# Altium schematic symbol library ADV7180.SchLib: 1 symbol
Pins are listed as number, name and electrical type; pins without a type are passive.

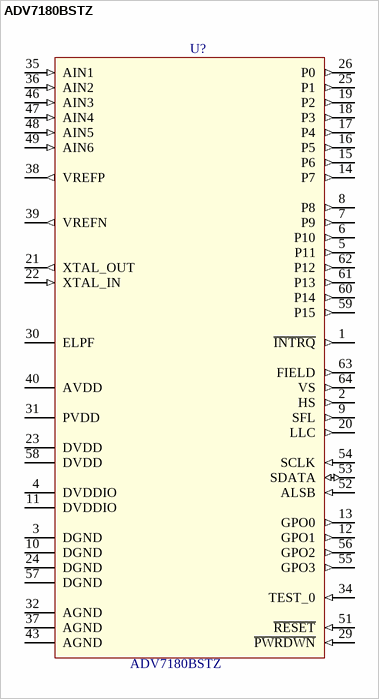
[diagram p0: symbol ADV7180BSTZ]

## ADV7180BSTZ
designator U?
64-pin, 10-Bit, 4xOversampling  SDTV Video Decoder; Value: ADV7180BSTZ
pins: 1 ~{INTRQ} (out), 2 HS (out), 3 DGND (power), 4 DVDDIO (power), 5 P11 (out), 6 P10 (out), 7 P9 (out), 8 P8 (out), 9 SFL (out) "Subcarrier Frequency Lock.", 10 DGND (power), 11 DVDDIO (power), 12 GPO1 (out), 13 GPO0 (out), 14 P7 (out), 15 P6 (out), 16 P5 (out), 17 P4 (out), 18 P3 (out), 19 P2 (out), 20 LLC (out) "This is a line-locked output clock for the pixel data output", 21 XTAL_OUT (out), 22 XTAL_IN (in), 23 DVDD (power), 24 DGND (power), 25 P1 (out), 26 P0 (out), 29 ~{PWRDWN} (in), 30 ELPF, 31 PVDD (power), 32 AGND (power), 34 TEST_0 (in), 35 AIN1 (in), 36 AIN2 (in), 37 AGND (power), 38 VREFP (out), 39 VREFN (out), 40 AVDD (power), 43 AGND (power), 46 AIN3 (in), 47 AIN4 (in), 48 AIN5 (in), 49 AIN6 (in), 51 ~{RESET} (in), 52 ALSB (in), 53 SDATA (io), 54 SCLK (in), 55 GPO3 (out), 56 GPO2 (out), 57 DGND (power), 58 DVDD (power), 59 P15 (out), 60 P14 (out), 61 P13 (out), 62 P12 (out), 63 FIELD (out), 64 VS (out)